# EAGLE library part HC0821 (library IronDriverLibrary)
LCD 8x2 HC0821
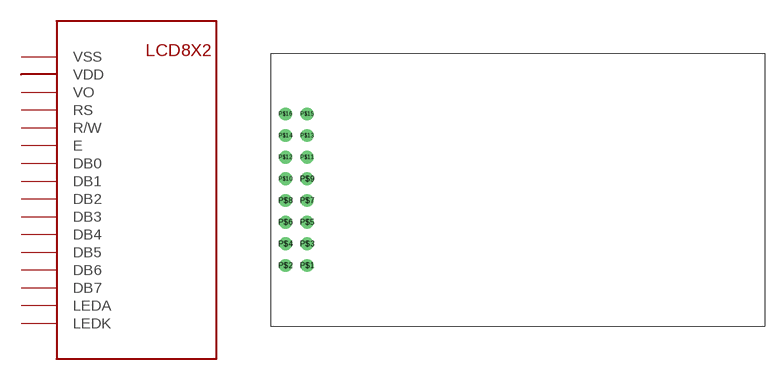
[diagram p0: symbol with the pads of LCD0821_FOOTPRINT; footprint LCD0821_FOOTPRINT]

Designator prefix LCD

## HC0821  [LCD0821_FOOTPRINT]
P$1  VSS
P$2  VDD
P$3  VO
P$4  RS
P$5  R/W
P$6  E
P$7  DB0
P$8  DB1
P$9  DB2
P$10  DB3
P$11  DB4
P$12  DB5
P$13  DB6
P$14  DB7
P$15  LEDA
P$16  LEDK

## Footprint LCD0821_FOOTPRINT (pad centres in mm)
drill 0.8 pad 1.5: P$1 -24.71,-8.89; P$2 -27.25,-8.89; P$3 -24.71,-6.35; P$4 -27.25,-6.35; P$5 -24.71,-3.81; P$6 -27.25,-3.81; P$7 -24.71,-1.27; P$8 -27.25,-1.27; P$9 -24.71,1.27; P$10 -27.25,1.27; P$11 -24.71,3.81; P$12 -27.25,3.81; P$13 -24.71,6.35; P$14 -27.25,6.35; P$15 -24.71,8.89; P$16 -27.25,8.89